# Altium schematic symbol library Logic.SchLib: 35 symbols
Pins are listed as number, name and electrical type; pins without a type are passive.

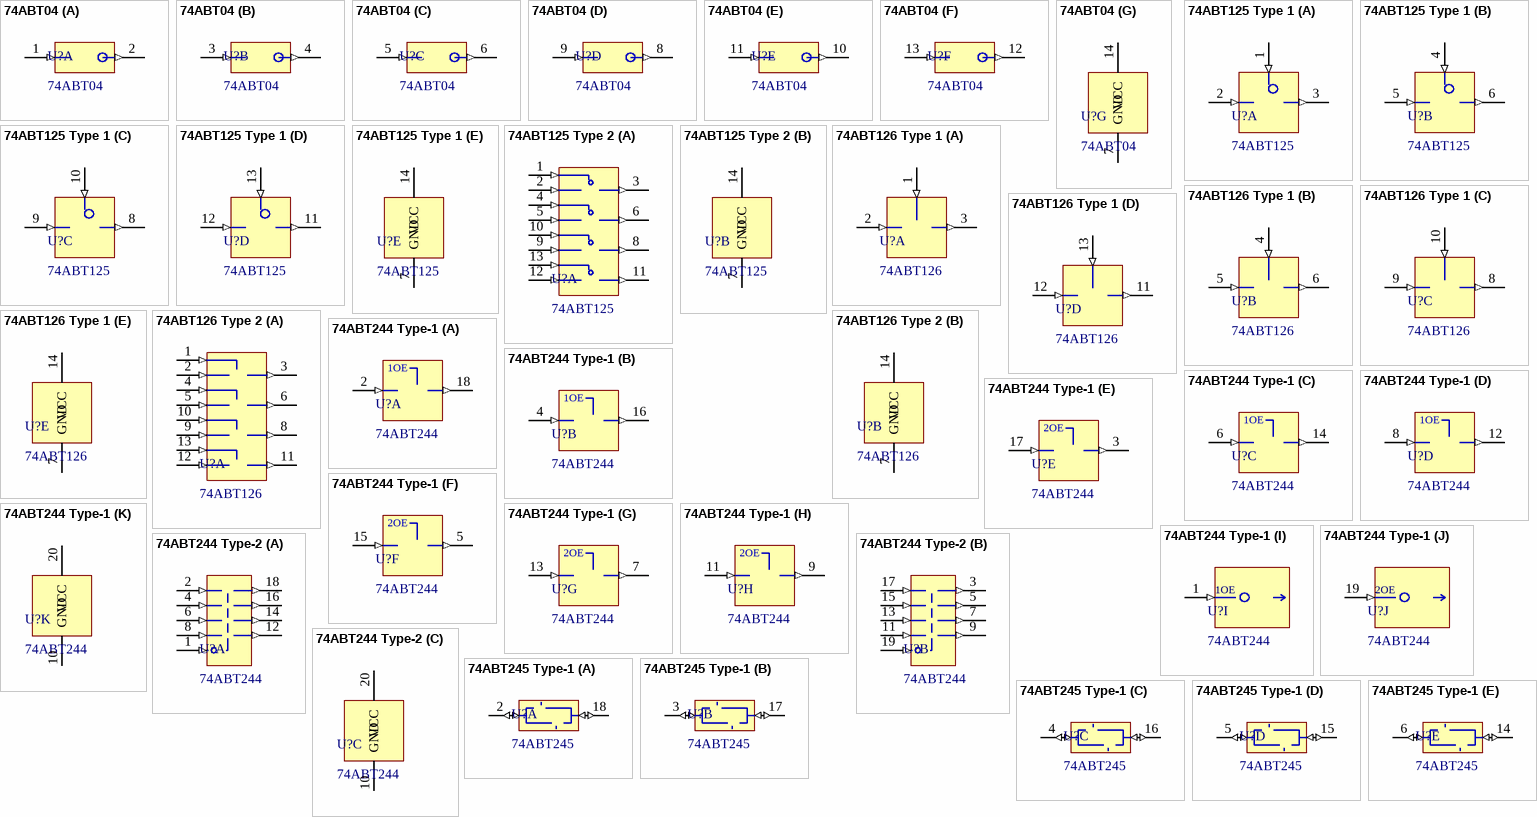
[diagram p0: symbols 74ABT04 to 74ABT245 Type-1]

## 74ABT04
designator U?
Hex Inverter
footprint SO14 (SOT108-1)
footprint SSOP14 (SOT337-1)
footprint TSSOP14 (SOT402-1)
part A pins: 1 A (in), 2 Y (out)
part B pins: 3 A (in), 4 Y (out)
part C pins: 5 A (in), 6 Y (out)
part D pins: 8 Y (out), 9 A (in)
part E pins: 10 Y (out), 11 A (in)
part F pins: 12 Y (out), 13 A (in)
part G pins: 7 GND (power), 14 VCC (power)

## 74ABT125 Type 1
designator U?, comment 74ABT125
Quad. Buffer 3-State
footprint SO14 (SOT108-1)
footprint SSOP14 (SOT337-1)
footprint TSSOP14 (SOT402-1)
footprint DHVQFN14 (SOT762-1)
part A pins: 1 1~{OE} (in), 2 1A (in), 3 1Y (out)
part B pins: 4 2~{OE} (in), 5 2A (in), 6 2Y (out)
part C pins: 8 3Y (out), 9 3A (in), 10 3~{OE} (in)
part D pins: 11 4Y (out), 12 4A (in), 13 4~{OE} (in)
part E pins: 7 GND (power), 14 VCC (power)

## 74ABT125 Type 2
designator U?, comment 74ABT125
Quad. Buffer 3-State
footprint SO14 (SOT108-1)
footprint SSOP14 (SOT337-1)
footprint TSSOP14 (SOT402-1)
footprint DHVQFN14 (SOT762-1)
part A pins: 1 1~{OE} (in), 2 1A (in), 3 1Y (out), 4 2~{OE} (in), 5 2A (in), 6 2Y (out), 8 3Y (out), 9 3A (in), 10 3~{OE} (in), 11 4Y (out), 12 4A (in), 13 4~{OE} (in)
part B pins: 7 GND (power), 14 VCC (power)

## 74ABT126 Type 1
designator U?, comment 74ABT126
Quad. Buffer 3-State
footprint SO14 (SOT108-1)
footprint SSOP14 (SOT337-1)
footprint TSSOP14 (SOT402-1)
part A pins: 1 ~{OE} (in), 2 A (in), 3 Y (out)
part B pins: 4 ~{OE} (in), 5 A (in), 6 Y (out)
part C pins: 8 Y (out), 9 A (in), 10 ~{OE} (in)
part D pins: 11 Y (out), 12 A (in), 13 ~{OE} (in)
part E pins: 7 GND (power), 14 VCC (power)

## 74ABT126 Type 2
designator U?, comment 74ABT126
Quad. Buffer 3-State
footprint SO14 (SOT108-1)
footprint SSOP14 (SOT337-1)
footprint TSSOP14 (SOT402-1)
footprint DHVQFN14 (SOT762-1)
part A pins: 1 ~{OE} (in), 2 A (in), 3 Y (out), 4 ~{OE} (in), 5 A (in), 6 Y (out), 8 Y (out), 9 A (in), 10 ~{OE} (in), 11 Y (out), 12 A (in), 13 ~{OE} (in)
part B pins: 7 GND (power), 14 VCC (power)

## 74ABT244 Type-1
designator U?, comment 74ABT244
Octal buffer/line driver; 3-state
footprint SO20 (SOT163-1)
footprint SSOP20 (SOT339-1)
footprint TSSOP20 (SOT360-1)
part A pins: 2 1A0 (in), 18 1Y0 (out)
part B pins: 4 1A1 (in), 16 1Y1 (out)
part C pins: 6 1A2 (in), 14 1Y2 (out)
part D pins: 8 1A3 (in), 12 1Y3 (out)
part E pins: 3 2Y0 (out), 17 2A0 (in)
part F pins: 5 2Y1 (out), 15 2A1 (in)
part G pins: 7 2Y2 (out), 13 2A2 (in)
part H pins: 9 2Y3 (out), 11 2A3 (in)
part I pins: 1 1~{OE} (in)
part J pins: 19 2~{OE} (in)
part K pins: 10 GND (power), 20 VCC (power)
part A text: 1OE
part B text: 1OE
part C text: 1OE
part D text: 1OE
part E text: 2OE
part F text: 2OE
part G text: 2OE
part H text: 2OE
part I text: 1OE
part J text: 2OE

## 74ABT244 Type-2
designator U?, comment 74ABT244
Octal buffer/line driver; 3-state
footprint SO20 (SOT163-1)
footprint SSOP20 (SOT339-1)
footprint TSSOP20 (SOT360-1)
part A pins: 1 1~{OE} (in), 2 1A0 (in), 4 1A1 (in), 6 1A2 (in), 8 1A3 (in), 12 1Y3 (out), 14 1Y2 (out), 16 1Y1 (out), 18 1Y0 (out)
part B pins: 3 2Y0 (out), 5 2Y1 (out), 7 2Y2 (out), 9 2Y3 (out), 11 2A3 (in), 13 2A2 (in), 15 2A1 (in), 17 2A0 (in), 19 2~{OE} (in)
part C pins: 10 GND (power), 20 VCC (power)

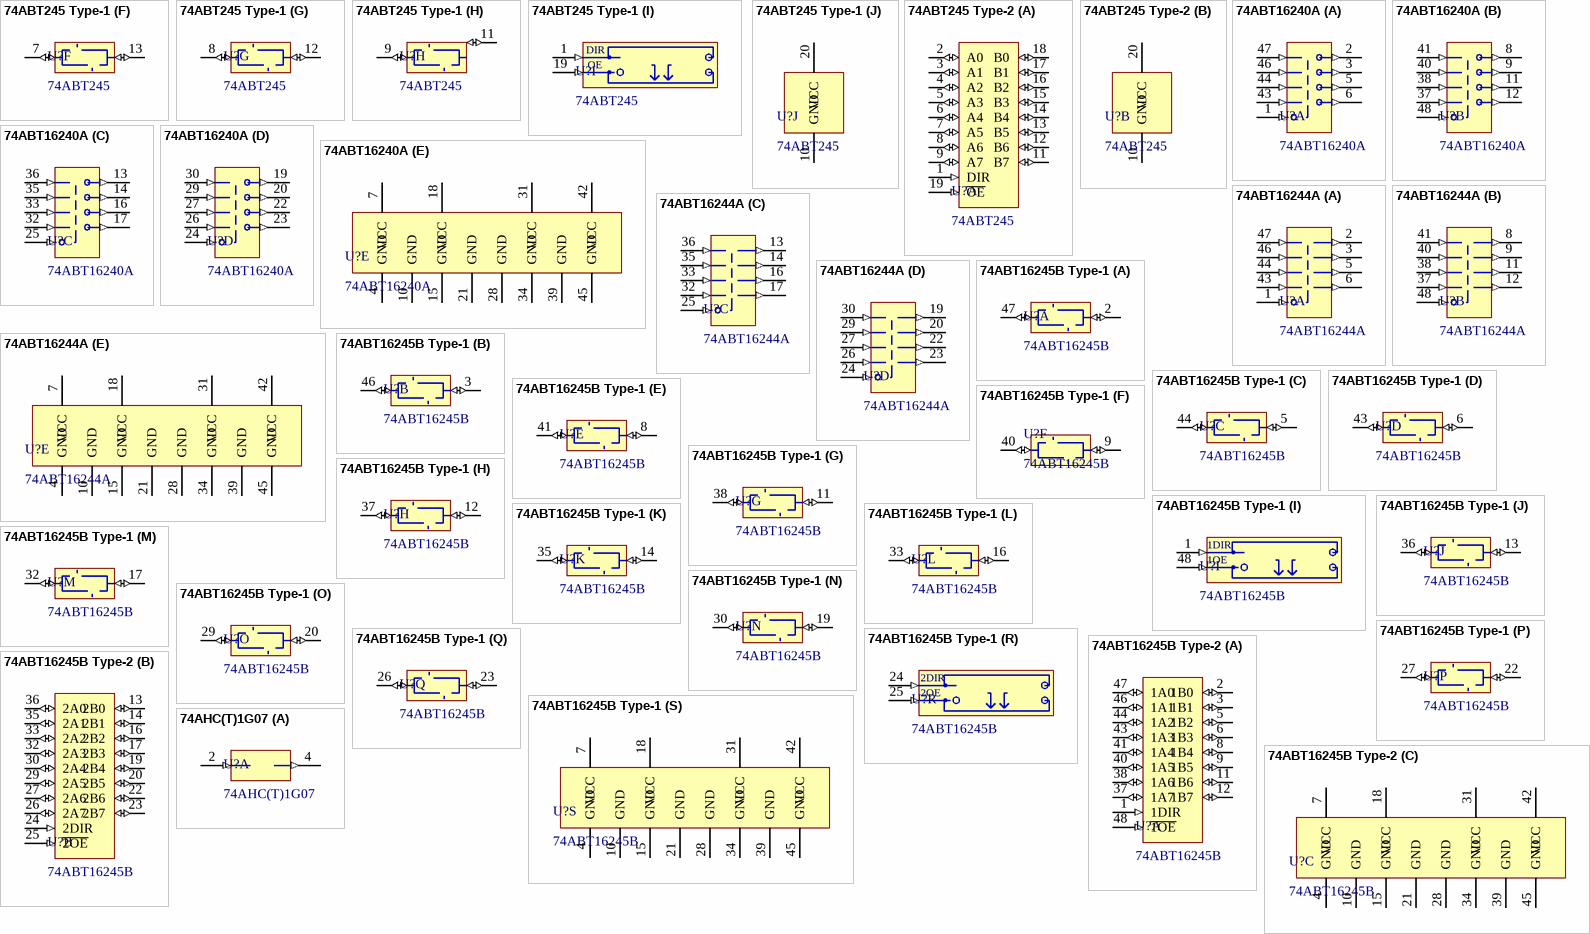
[diagram p1: symbols 74ABT245 Type-1 to 74AHC(T)1G07]

## 74ABT245 Type-1
designator U?, comment 74ABT245
Octal transceiver with direction pin; 3-State
footprint SO20 (SOT163-1)
footprint SSOP20 (SOT339-1)
footprint TSSOP20 (SOT360-1)
part A pins: 2 A0 (io), 18 B0 (io)
part B pins: 3 A1 (io), 17 B1 (io)
part C pins: 4 A2 (io), 16 B2 (io)
part D pins: 5 A3 (io), 15 B3 (io)
part E pins: 6 A4 (io), 14 B4 (io)
part F pins: 7 A5 (io), 13 B5 (io)
part G pins: 8 A6 (io), 12 B6 (io)
part H pins: 9 A7 (io), 11 B7 (io)
part I pins: 1 DIR (in), 19 ~{OE} (in)
part J pins: 10 GND (power), 20 VCC (power)
part I text: OE

## 74ABT245 Type-2
designator U?, comment 74ABT245
Octal transceiver with direction pin; 3-State
footprint SO20 (SOT163-1)
footprint SSOP20 (SOT339-1)
footprint TSSOP20 (SOT360-1)
part A pins: 1 DIR (in), 2 A0 (io), 3 A1 (io), 4 A2 (io), 5 A3 (io), 6 A4 (io), 7 A5 (io), 8 A6 (io), 9 A7 (io), 11 B7 (io), 12 B6 (io), 13 B5 (io), 14 B4 (io), 15 B3 (io), 16 B2 (io), 17 B1 (io), 18 B0 (io), 19 ~{OE} (in)
part B pins: 10 GND (power), 20 VCC (power)

## 74ABT16240A
designator U?
16-bit Inverting Buffer/Line Driver 3-State
footprint SSOP48
footprint TSSOP48 (SOT362-1)
part A pins: 1 1OE (in), 2 1Y0 (out), 3 1Y1 (out), 5 1Y2 (out), 6 1Y3 (out), 43 1A3 (in), 44 1A2 (in), 46 1A1 (in), 47 1A0 (in)
part B pins: 8 2Y0 (out), 9 2Y1 (out), 11 2Y2 (out), 12 2Y3 (out), 37 2A3 (in), 38 2A2 (in), 40 2A1 (in), 41 2A0 (in), 48 2OE (in)
part C pins: 13 3Y0 (out), 14 3Y1 (out), 16 3Y2 (out), 17 3Y3 (out), 25 3OE (in), 32 3A3 (in), 33 3A2 (in), 35 3A1 (in), 36 3A0 (in)
part D pins: 19 4Y0 (out), 20 4Y1 (out), 22 4Y2 (out), 23 4Y3 (out), 24 4OE (in), 26 4A3 (in), 27 4A2 (in), 29 4A1 (in), 30 4A0 (in)
part E pins: 4 GND (power), 7 VCC (power), 10 GND (power), 15 GND (power), 18 VCC (power), 21 GND (power), 28 GND (power), 31 VCC (power), 34 GND (power), 39 GND (power), 42 VCC (power), 45 GND (power)

## 74ABT16244A
designator U?
16-bit Buffer/Line Driver 3-State
footprint SSOP48
footprint TSSOP48 (SOT362-1)
part A pins: 1 1OE (in), 2 1Y0 (out), 3 1Y1 (out), 5 1Y2 (out), 6 1Y3 (out), 43 1A3 (in), 44 1A2 (in), 46 1A1 (in), 47 1A0 (in)
part B pins: 8 2Y0 (out), 9 2Y1 (out), 11 2Y2 (out), 12 2Y3 (out), 37 2A3 (in), 38 2A2 (in), 40 2A1 (in), 41 2A0 (in), 48 2OE (in)
part C pins: 13 3Y0 (out), 14 3Y1 (out), 16 3Y2 (out), 17 3Y3 (out), 25 3OE (in), 32 3A3 (in), 33 3A2 (in), 35 3A1 (in), 36 3A0 (in)
part D pins: 19 4Y0 (out), 20 4Y1 (out), 22 4Y2 (out), 23 4Y3 (out), 24 4OE (in), 26 4A3 (in), 27 4A2 (in), 29 4A1 (in), 30 4A0 (in)
part E pins: 4 GND (power), 7 VCC (power), 10 GND (power), 15 GND (power), 18 VCC (power), 21 GND (power), 28 GND (power), 31 VCC (power), 34 GND (power), 39 GND (power), 42 VCC (power), 45 GND (power)

## 74ABT16245B Type-1
designator U?, comment 74ABT16245B
16-bit Bus Transceiver 3-State
footprint SSOP48 (SOT370-1)
footprint TSSOP48 (SOT362-1)
part A pins: 2 1B0 (io), 47 1A0 (io)
part B pins: 3 1B1 (io), 46 1A1 (io)
part C pins: 5 1B2 (io), 44 1A2 (io)
part D pins: 6 1B3 (io), 43 1A3 (io)
part E pins: 8 1B4 (io), 41 1A4 (io)
part F pins: 9 1B5 (io), 40 1A5 (io)
part G pins: 11 1B6 (io), 38 1A6 (io)
part H pins: 12 1B7 (io), 37 1A7 (io)
part I pins: 1 1DIR (in), 48 ~{1OE} (in)
part J pins: 13 2B0 (io), 36 2A0 (io)
part K pins: 14 2B1 (io), 35 2A1 (io)
part L pins: 16 2B2 (io), 33 2A2 (io)
part M pins: 17 2B3 (io), 32 2A3 (io)
part N pins: 19 2B4 (io), 30 2A4 (io)
part O pins: 20 2B5 (io), 29 2A5 (io)
part P pins: 22 2B6 (io), 27 2A6 (io)
part Q pins: 23 2B7 (io), 26 2A7 (io)
part R pins: 24 2DIR (in), 25 ~{2OE} (in)
part S pins: 4 GND (power), 7 VCC (power), 10 GND (power), 15 GND (power), 18 VCC (power), 21 GND (power), 28 GND (power), 31 VCC (power), 34 GND (power), 39 GND (power), 42 VCC (power), 45 GND (power)
part I text: 1OE
part R text: 2OE

## 74ABT16245B Type-2
designator U?, comment 74ABT16245B
16-bit Bus Transceiver 3-State
footprint SSOP48 (SOT370-1)
footprint TSSOP48 (SOT362-1)
part A pins: 1 1DIR (in), 2 1B0 (io), 3 1B1 (io), 5 1B2 (io), 6 1B3 (io), 8 1B4 (io), 9 1B5 (io), 11 1B6 (io), 12 1B7 (io), 37 1A7 (io), 38 1A6 (io), 40 1A5 (io), 41 1A4 (io), 43 1A3 (io), 44 1A2 (io), 46 1A1 (io), 47 1A0 (io), 48 ~{1OE} (in)
part B pins: 13 2B0 (io), 14 2B1 (io), 16 2B2 (io), 17 2B3 (io), 19 2B4 (io), 20 2B5 (io), 22 2B6 (io), 23 2B7 (io), 24 2DIR (in), 25 ~{2OE} (in), 26 2A7 (io), 27 2A6 (io), 29 2A5 (io), 30 2A4 (io), 32 2A3 (io), 33 2A2 (io), 35 2A1 (io), 36 2A0 (io)
part C pins: 4 GND (power), 7 VCC (power), 10 GND (power), 15 GND (power), 18 VCC (power), 21 GND (power), 28 GND (power), 31 VCC (power), 34 GND (power), 39 GND (power), 42 VCC (power), 45 GND (power)

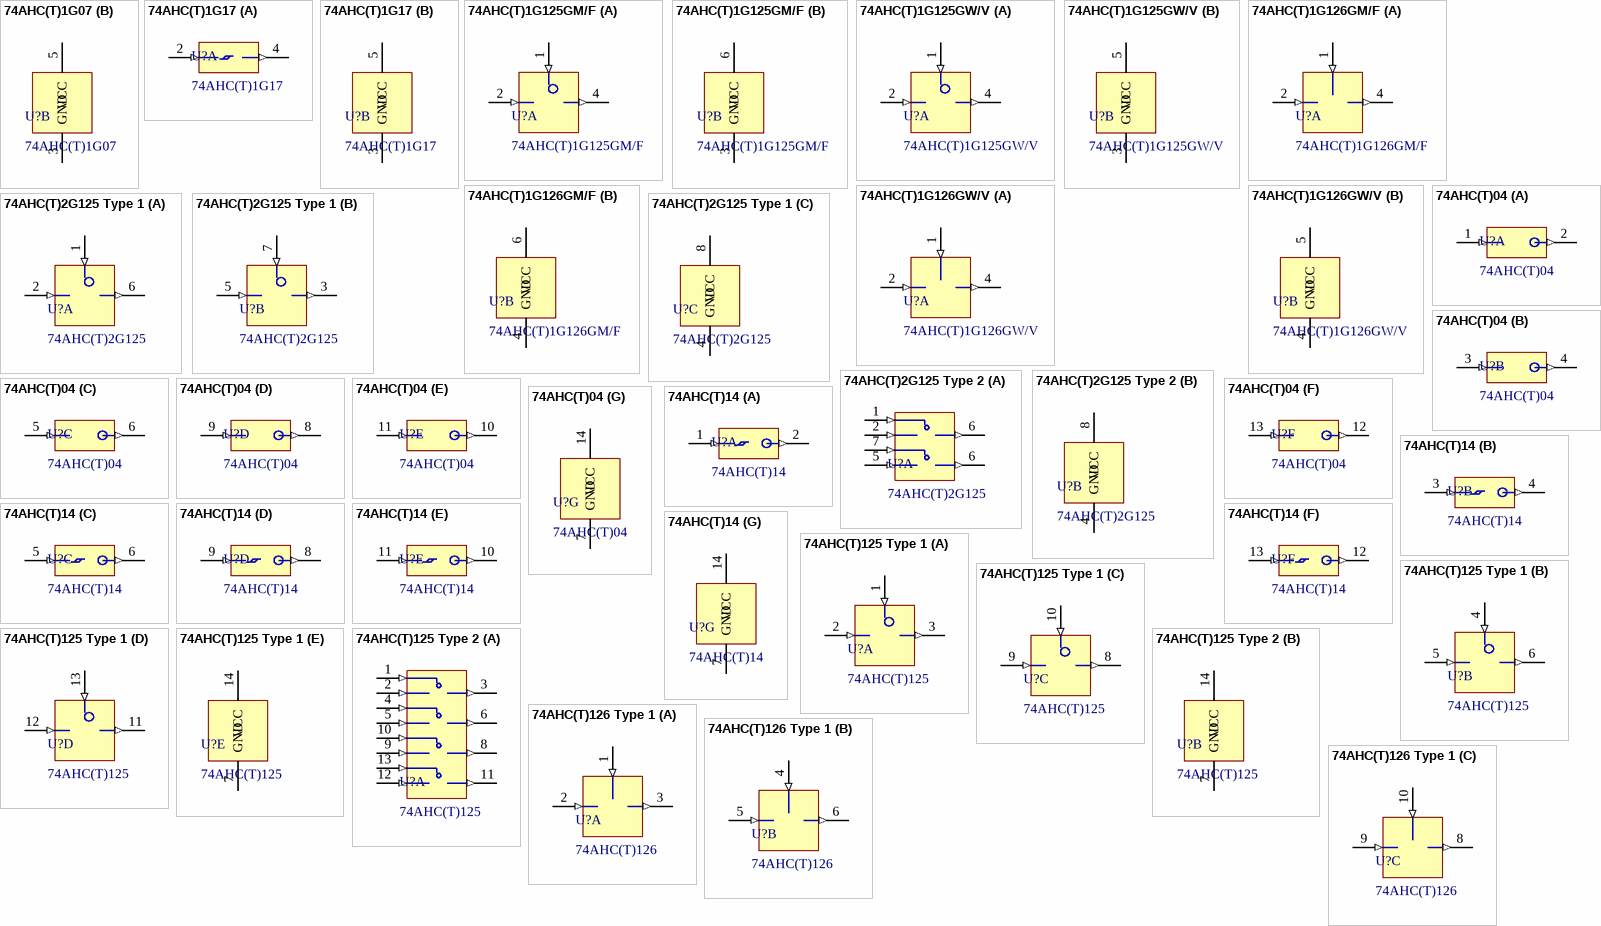
[diagram p2: symbols 74AHC(T)1G07 to 74AHC(T)126 Type 1]

## 74AHC(T)1G07
designator U?
Buffer with Open-Drain Output
footprint TSSOP5 (SOT353-1)
footprint TSOP5 (SOT753)
part A pins: 2 A (in), 4 Y (out)
part B pins: 3 GND (power), 5 VCC (power)

## 74AHC(T)1G17
designator U?
Single Schmitt trigger buffer
footprint TSSOP5 (SOT353-1)
footprint TSOP5 (SOT753)
part A pins: 2 A (in), 4 Y (out)
part B pins: 3 GND (power), 5 VCC (power)

## 74AHC(T)1G125GM/F
designator U?
Bus Buffer/Line Driver; 3-state
footprint XSON6 1.00 (SOT891)
footprint XSON6 1.45 (SOT886)
part A pins: 1 ~{OE} (in), 2 A (in), 4 Y (out)
part B pins: 3 GND (power), 6 VCC (power)

## 74AHC(T)1G125GW/V
designator U?
Bus Buffer/Line Driver; 3-state
footprint TSSOP5 (SOT353-1)
footprint TSOP5 (SOT753)
part A pins: 1 ~{OE} (in), 2 A (in), 4 Y (out)
part B pins: 3 GND (power), 5 VCC (power)

## 74AHC(T)1G126GM/F
designator U?
Bus Buffer/Line Driver; 3-State
footprint XSON6 1.45 (SOT886)
footprint XSON6 1.00 (SOT891)
part A pins: 1 ~{OE} (in), 2 A (in), 4 Y (out)
part B pins: 4 GND (power), 6 VCC (power)

## 74AHC(T)1G126GW/V
designator U?
Bus Buffer/Line Driver; 3-State
footprint TSSOP5 (SOT353-1)
footprint TSOP5 (SOT753)
part A pins: 1 ~{OE} (in), 2 A (in), 4 Y (out)
part B pins: 4 GND (power), 5 VCC (power)

## 74AHC(T)2G125 Type 1
designator U?, comment 74AHC(T)2G125
Dual Buffer/Line Driver; 3-State
footprint TSSOP8 (SOT505-2)
footprint VSSOP8 (SOT765-1)
footprint XSON8 (SOT996-2)
part A pins: 1 1~{OE} (in), 2 1A (in), 6 2Y (out)
part B pins: 3 2Y (out), 5 2A (in), 7 2~{OE} (in)
part C pins: 4 GND (power), 8 VCC (power)

## 74AHC(T)2G125 Type 2
designator U?, comment 74AHC(T)2G125
Dual Buffer/Line Driver; 3-State
footprint TSSOP8 (SOT505-2)
footprint VSSOP8 (SOT765-1)
footprint XSON8 (SOT996-2)
part A pins: 1 1~{OE} (in), 2 1A (in), 5 2A (in), 6 1Y (out), 6 2Y (out), 7 2~{OE} (in)
part B pins: 4 GND (power), 8 VCC (power)

## 74AHC(T)04
designator U?
Hex Inverter
footprint SO14 (SOT108-1)
footprint TSSOP14 (SOT402-1)
footprint DHVQFN14 (SOT762-1)
part A pins: 1 A (in), 2 Y (out)
part B pins: 3 A (in), 4 Y (out)
part C pins: 5 A (in), 6 Y (out)
part D pins: 8 Y (out), 9 A (in)
part E pins: 10 Y (out), 11 A (in)
part F pins: 12 Y (out), 13 A (in)
part G pins: 7 GND (power), 14 VCC (power)

## 74AHC(T)14
designator U?
Hex Inverting Schmitt Trigger
footprint SO14 (SOT108-1)
footprint TSSOP14 (SOT402-1)
footprint DHVQFN14 (SOT762-1)
part A pins: 1 A (in), 2 Y (out)
part B pins: 3 A (in), 4 Y (out)
part C pins: 5 A (in), 6 Y (out)
part D pins: 8 Y (out), 9 A (in)
part E pins: 10 Y (out), 11 A (in)
part F pins: 12 Y (out), 13 A (in)
part G pins: 7 GND (power), 14 VCC (power)

## 74AHC(T)125 Type 1
designator U?, comment 74AHC(T)125
Quad. Buffer 3-State
footprint SO14 (SOT108-1)
footprint TSSOP14 (SOT402-1)
footprint DHVQFN14 (SOT762-1)
part A pins: 1 ~{OE} (in), 2 A (in), 3 Y (out)
part B pins: 4 ~{OE} (in), 5 A (in), 6 Y (out)
part C pins: 8 Y (out), 9 A (in), 10 ~{OE} (in)
part D pins: 11 Y (out), 12 A (in), 13 ~{OE} (in)
part E pins: 7 GND (power), 14 VCC (power)

## 74AHC(T)125 Type 2
designator U?, comment 74AHC(T)125
Quad. Buffer 3-State
footprint SO14 (SOT108-1)
footprint TSSOP14 (SOT402-1)
footprint DHVQFN14 (SOT762-1)
part A pins: 1 ~{OE} (in), 2 A (in), 3 Y (out), 4 ~{OE} (in), 5 A (in), 6 Y (out), 8 Y (out), 9 A (in), 10 ~{OE} (in), 11 Y (out), 12 A (in), 13 ~{OE} (in)
part B pins: 7 GND (power), 14 VCC (power)

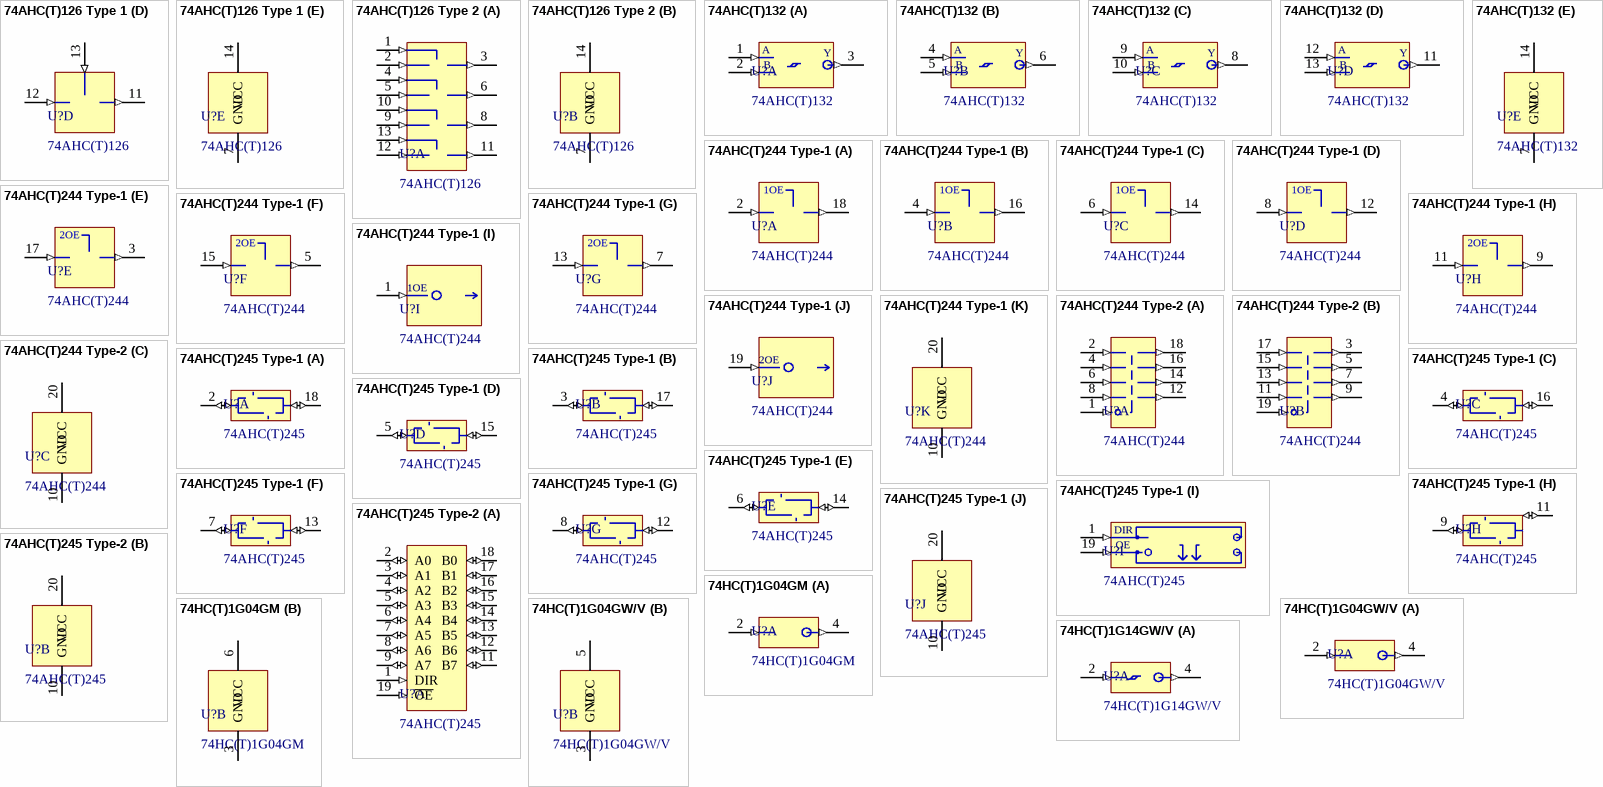
[diagram p3: symbols 74AHC(T)126 Type 1 to 74HC(T)1G14GW/V]

## 74AHC(T)126 Type 1
designator U?, comment 74AHC(T)126
Quad. Buffer 3-State
footprint SO14 (SOT108-1)
footprint TSSOP14 (SOT402-1)
footprint DHVQFN14 (SOT762-1)
part A pins: 1 ~{OE} (in), 2 A (in), 3 Y (out)
part B pins: 4 ~{OE} (in), 5 A (in), 6 Y (out)
part C pins: 8 Y (out), 9 A (in), 10 ~{OE} (in)
part D pins: 11 Y (out), 12 A (in), 13 ~{OE} (in)
part E pins: 7 GND (power), 14 VCC (power)

## 74AHC(T)126 Type 2
designator U?, comment 74AHC(T)126
Quad. Buffer 3-State
footprint SO14 (SOT108-1)
footprint TSSOP14 (SOT402-1)
footprint DHVQFN14 (SOT762-1)
footprint DHVQFN14 (SOT762-1)
part A pins: 1 ~{OE} (in), 2 A (in), 3 Y (out), 4 ~{OE} (in), 5 A (in), 6 Y (out), 8 Y (out), 9 A (in), 10 ~{OE} (in), 11 Y (out), 12 A (in), 13 ~{OE} (in)
part B pins: 7 GND (power), 14 VCC (power)

## 74AHC(T)132
designator U?
Quad 2-input NAND Schmitt trigger
footprint SO14 (SOT108-1)
footprint TSSOP14 (SOT402-1)
footprint DHVQFN14 (SOT762-1)
part A pins: 1 A (in), 2 B (in), 3 Y (out)
part B pins: 4 A (in), 5 B (in), 6 Y (out)
part C pins: 8 Y (out), 9 A (in), 10 B (in)
part D pins: 11 Y (out), 12 A (in), 13 B (in)
part E pins: 7 GND (power), 14 VCC (power)

## 74AHC(T)244 Type-1
designator U?, comment 74AHC(T)244
Octal Buffer/Line Driver; 3-State
footprint SO20 (SOT163-1)
footprint TSSOP20 (SOT360-1)
footprint DHVQFN20 (SOT764-1)
part A pins: 2 1A0 (in), 18 1Y0 (out)
part B pins: 4 1A1 (in), 16 1Y1 (out)
part C pins: 6 1A2 (in), 14 1Y2 (out)
part D pins: 8 1A3 (in), 12 1Y3 (out)
part E pins: 3 2Y0 (out), 17 2A0 (in)
part F pins: 5 2Y1 (out), 15 2A1 (in)
part G pins: 7 2Y2 (out), 13 2A2 (in)
part H pins: 9 2Y3 (out), 11 2A3 (in)
part I pins: 1 1~{OE} (in)
part J pins: 19 2~{OE} (in)
part K pins: 10 GND (power), 20 VCC (power)
part A text: 1OE
part B text: 1OE
part C text: 1OE
part D text: 1OE
part E text: 2OE
part F text: 2OE
part G text: 2OE
part H text: 2OE
part I text: 1OE
part J text: 2OE

## 74AHC(T)244 Type-2
designator U?, comment 74AHC(T)244
Octal Buffer/Line Driver; 3-State
footprint SO20 (SOT163-1)
footprint TSSOP20 (SOT360-1)
footprint DHVQFN20 (SOT764-1)
part A pins: 1 1~{OE} (in), 2 1A0 (in), 4 1A1 (in), 6 1A2 (in), 8 1A3 (in), 12 1Y3 (out), 14 1Y2 (out), 16 1Y1 (out), 18 1Y0 (out)
part B pins: 3 2Y0 (out), 5 2Y1 (out), 7 2Y2 (out), 9 2Y3 (out), 11 2A3 (in), 13 2A2 (in), 15 2A1 (in), 17 2A0 (in), 19 2~{OE} (in)
part C pins: 10 GND (power), 20 VCC (power)

## 74AHC(T)245 Type-1
designator U?, comment 74AHC(T)245
Octal Transceiver with Direction Pin; 3-State
footprint SO20 (SOT163-1)
footprint TSSOP20 (SOT360-1)
footprint DHVQFN20 (SOT764-1)
part A pins: 2 A0 (io), 18 B0 (io)
part B pins: 3 A1 (io), 17 B1 (io)
part C pins: 4 A2 (io), 16 B2 (io)
part D pins: 5 A3 (io), 15 B3 (io)
part E pins: 6 A4 (io), 14 B4 (io)
part F pins: 7 A5 (io), 13 B5 (io)
part G pins: 8 A6 (io), 12 B6 (io)
part H pins: 9 A7 (io), 11 B7 (io)
part I pins: 1 DIR (in), 19 ~{OE} (in)
part J pins: 10 GND (power), 20 VCC (power)
part I text: OE

## 74AHC(T)245 Type-2
designator U?, comment 74AHC(T)245
Octal Transceiver with Direction Pin; 3-State
footprint SO20 (SOT163-1)
footprint TSSOP20 (SOT360-1)
footprint DHVQFN20 (SOT764-1)
part A pins: 1 DIR (in), 2 A0 (io), 3 A1 (io), 4 A2 (io), 5 A3 (io), 6 A4 (io), 7 A5 (io), 8 A6 (io), 9 A7 (io), 11 B7 (io), 12 B6 (io), 13 B5 (io), 14 B4 (io), 15 B3 (io), 16 B2 (io), 17 B1 (io), 18 B0 (io), 19 ~{OE} (in)
part B pins: 10 GND (power), 20 VCC (power)

## 74HC(T)1G04GM
designator U?
Inverter
footprint XSON6 1.45 (SOT886)
part A pins: 2 A (in), 4 Y (out)
part B pins: 3 GND (power), 6 VCC (power)

## 74HC(T)1G04GW/V
designator U?
Inverter
footprint TSSOP5 (SOT353-1)
footprint TSOP5 (SOT753)
part A pins: 2 A (in), 4 Y (out)
part B pins: 3 GND (power), 5 VCC (power)

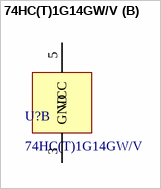
[diagram p4: symbol 74HC(T)1G14GW/V]

## 74HC(T)1G14GW/V
designator U?
Inverting Schmitt Trigger
footprint TSSOP5 (SOT353-1)
footprint TSOP5 (SOT753)
part A pins: 2 A (in), 4 Y (out)
part B pins: 3 GND (power), 5 VCC (power)